# Altium schematic symbol library lib_pulse.SchLib: 6 symbols
Pins are listed as number, name and electrical type; pins without a type are passive.

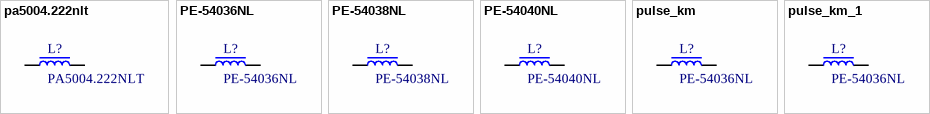
[diagram p0: symbols pa5004.222nlt to pulse_km_1]

## pa5004.222nlt
designator L?, comment PA5004.222NLT
High Current Composite Inductor; ComponentLink1Description: datasheet; ComponentLink1URL: https://products.pulseelex.com/files/product_files/P805.pdf
footprint pa5004.222nlt
pins: 1, 2

## PE-54036NL
designator L?
High Current torodial Inductor; ComponentLink1Description: datasheet; ComponentLink1URL: https://products.pulseelex.com/files/product_files/P805.pdf; Supplier 1: Digi-Key; Supplier Part Number 1: 553-1884-ND
footprint KM-3.0
pins: 1, 2

## PE-54038NL
designator L?
High Current torodial Inductor; ComponentLink1Description: datasheet; ComponentLink1URL: https://products.pulseelex.com/files/product_files/P805.pdf; Supplier 1: Digi-Key; Supplier Part Number 1: 553-1539-ND
footprint KM-3.0
pins: 1, 2

## PE-54040NL
designator L?
High Current torodial Inductor; ComponentLink1Description: datasheet; ComponentLink1URL: https://products.pulseelex.com/files/product_files/P805.pdf; Supplier 1: Digi-Key; Supplier Part Number 1: 553-1541-ND
footprint KM-3.0
pins: 1, 2

## pulse_km
designator L?, comment PE-54036NL
High Current torodial Inductor; ComponentLink1Description: datasheet; ComponentLink1URL: https://products.pulseelex.com/files/product_files/P805.pdf
footprint KM-3.0
pins: 1, 2

## pulse_km_1
designator L?, comment PE-54036NL
High Current torodial Inductor; ComponentLink1Description: datasheet; ComponentLink1URL: https://products.pulseelex.com/files/product_files/P805.pdf
footprint KM-3.0
pins: 1, 2